# EAGLE library part PBS_SMD_X6 (library UNKNOWN-2024)
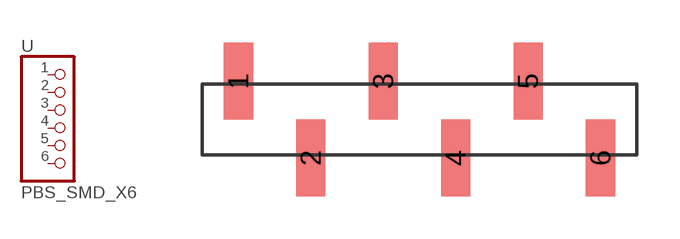
[diagram p14: symbol with the pads of PBS_SMD_X6; footprint PBS_SMD_X6]

Designator prefix -

## PBS_SMD_X6  [PBS_SMD_X6]
1  1  pas
2  2  pas
3  3  pas
4  4  pas
5  5  pas
6  6  pas

## Footprint PBS_SMD_X6 (pad centres in mm)
smd 1.02 x 2.7: 1 -6.35,1.35; 2 -3.81,-1.35; 3 -1.27,1.35; 4 1.27,-1.35; 5 3.81,1.35; 6 6.35,-1.35